# Altium schematic symbol library AUAV_X05.SchLib: 72 symbols
Pins are listed as number, name and electrical type; pins without a type are passive.

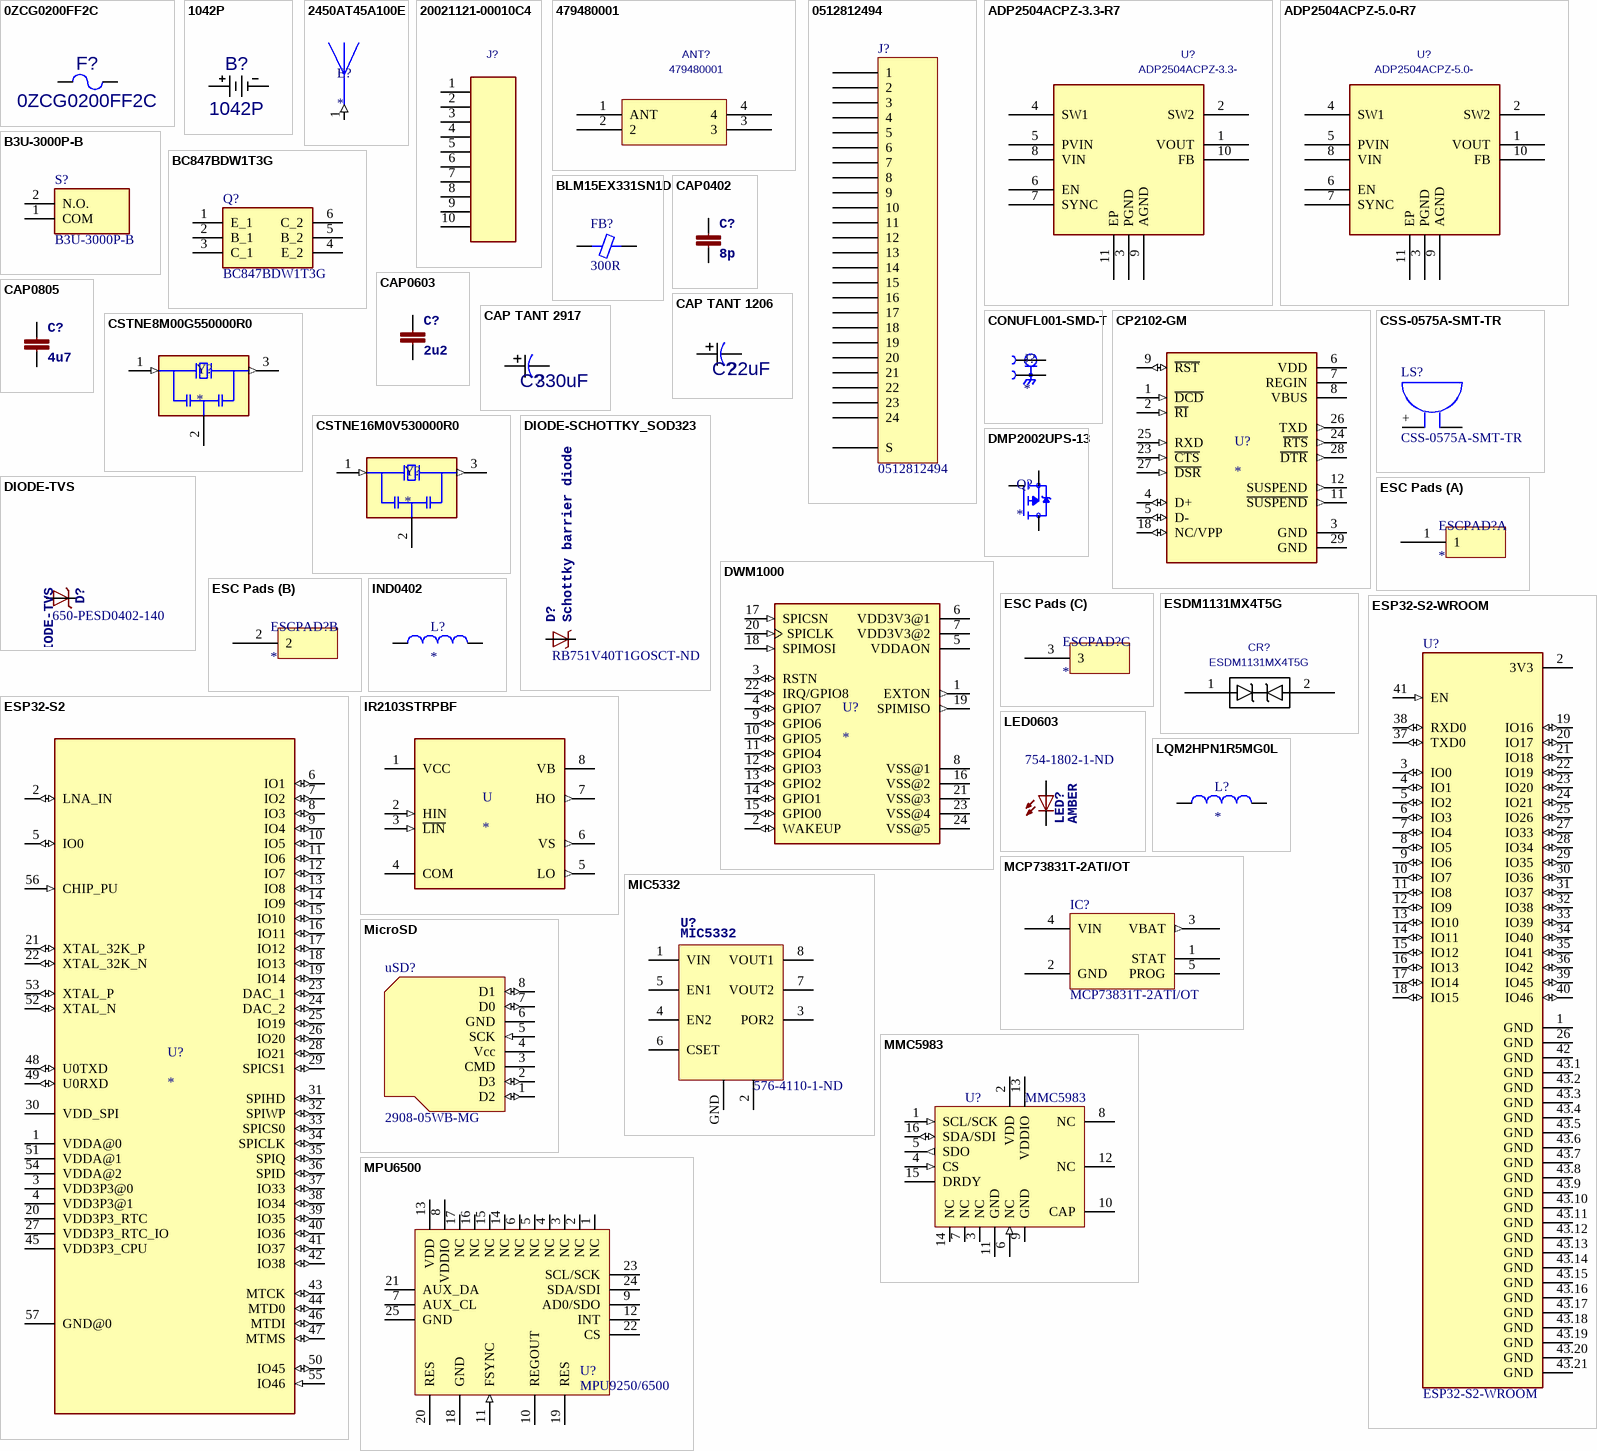
[diagram p0: symbols 0ZCG0200FF2C to MPU6500]

## 0ZCG0200FF2C
designator F?
Mfr_Name: Belfuse; Copyright: Copyright (C) 2022 Ultra Librarian. All rights reserved.; Manufacturer_Part_Number: 0ZCG0200FF2C; Digi-Key_Part_Number_1: 507-1777-1-ND; Digi-Key_Part_Number_2: 507-1777-2-ND; Digi-Key_Part_Number_3: 507-1777-6-ND; Value: 0ZCG0200FF2C
footprint 0ZCG_BEL
pins: 1, 2

## 1042P
designator B?
Mfr_Name: Keystone Electronics; C: Copyright (C) 2018 Accelerated Designs. All rights reserved; Copyright: Copyright (C) 2022 Ultra Librarian. All rights reserved.; Manufacturer_Part_Number: 1042P; Value: 1042P
footprint 1042P_KEY
pins: 1, 2

## 2450AT45A100E
designator E?
2.4GHz Chip RF Antenna 2.4GHz ~ 2.5GHz 2.2dBi Solder Surface Mount; MP: 2450AT45A100E; MF: Johanson Technology; Price: None; Value: *; Package: FBGA-1152 Johanson Technology; SnapEDA_Link: https://www.snapeda.com/parts/2450AT45A100E/Johanson%20Technology%20Inc./view-part/105265/?ref=snap; Availability: Unavailable
footprint ANT_2450AT45A100E
pins: 1 (in)

## 20021121-00010C4
designator J?  (value not drawn)
Mfr_Name: Amphenol ICC; Manufacturer_Part_Number: 20021121-00010C4LF; Value: 20021121-00010C4; Copyright: Copyright (C) 2022 Ultra Librarian. All rights reserved.; Digi-Key_Part_Number_1: 609-3695-1-ND; Digi-Key_Part_Number_2: 609-3695-2-ND; Digi-Key_Part_Number_3: 609-3695-2-NDL; Digi-Key_Part_Number_4: 609-3695-6-ND
footprint CONN_00010C4LF_A
pins: 1, 2, 3, 4, 5, 6, 7, 8, 9, 10
2 alternate drawings of the same symbol

## 479480001
designator ANT?
Mfr_Name: Molex Connector Corporation; C: Copyright (C) 2018 Accelerated Designs. All rights reserved; Value: 479480001; Copyright: Copyright (C) 2022 Ultra Librarian. All rights reserved.; Manufacturer_Part_Number: 479480001
footprint Molex_47948-0001_0
pins: 1 ANT, 2, 3, 4

## 0512812494
designator J?
CONN FFC FPC 24POS 0.50MM R/A; Manufacturer: Molex; Cable End Type: Straight, Tapered; Connector/Contact Type: Contacts, Top and Bottom; FFC, FCB Thickness: 0.30mm; Flat Flex Type: FFC, FPC; Material Flammability Rating: UL94 V-0; Number of Positions: 24; Pitch: 0.020" (0.50mm); Voltage Rating: 50V; Part Number: 0512812494; ComponentLink1Description: Datasheet; ComponentLink1URL: https://www.molex.com/pdm_docs/sd/512810794_sd.pdf; ComponentLink2Description: DigiKey Link; ComponentLink2URL: http://digikey.com/product-detail/en/molex/0512812494/WM6240CT-ND/2185198; Contact Finish: Gold; Contact Material: Phosphor Bronze; Features: Solder Retention; Height Above Board: 0.047" (1.20mm); Housing Material: Liquid Crystal Polymer (LCP), Glass Filled; LastUpdated: 26-05-2020 12:28:11; Lifecycle Status: Active; Minimum Order: 1; Mounting Type: Surface Mount, Right Angle; Operating Temperature: -20°C ~ 85°C; Packaging: TapeAndReel; Part Status: Active; Price: 0.71; Series: 51281; Supplier 1: DigiKey; Supplier Part Number 1: WM6240CT-ND; Termination: Solder
footprint MOLEX 512812494
pins: 1, 2, 3, 4, 5, 6, 7, 8, 9, 10, 11, 12, 13, 14, 15, 16, 17, 18, 19, 20, 21, 22, 23, 24, S

## ADP2504ACPZ-3.3-R7
designator U?, comment ADP2504ACPZ-3.3-
Mfr_Name: Analog Devices Inc; Manufacturer_Part_Number: ADP2504ACPZ-3.3-R7; Value: ADP2504ACPZ-3.3-; Copyright: Copyright (C) 2022 Ultra Librarian. All rights reserved.
footprint CP_10_9_ADI
pins: 1 VOUT, 2 SW2, 3 PGND, 4 SW1, 5 PVIN, 6 EN, 7 SYNC, 8 VIN, 9 AGND, 10 FB, 11 EP

## ADP2504ACPZ-5.0-R7
designator U?, comment ADP2504ACPZ-5.0-
Mfr_Name: Analog Devices Inc; Manufacturer_Part_Number: ADP2504ACPZ-5.0-R7; Value: ADP2504ACPZ-5.0-; Copyright: Copyright (C) 2022 Ultra Librarian. All rights reserved.
footprint CP_10_9_ADI
pins: 1 VOUT, 2 SW2, 3 PGND, 4 SW1, 5 PVIN, 6 EN, 7 SYNC, 8 VIN, 9 AGND, 10 FB, 11 EP

## B3U-3000P-B
designator S?
Switch; Manufacturer_Name: Omron Electronics; Datasheet Link: https://componentsearchengine.com/Datasheets/2/B3U-3000P-B.pdf; Height: 1.35mm; Manufacturer_Part_Number: B3U-3000P-B; Mouser Part Number: 653-B3U-3000P-B; Mouser Price/Stock: https://www.mouser.co.uk/ProductDetail/Omron-Electronics/B3U-3000P-B?qs=AO7BQMcsEu4JAdtnbsGArA%3D%3D; Arrow Part Number: B3U-3000P-B; Arrow Price/Stock: https://www.arrow.com/en/products/b3u-3000p-b/omron?region=nac
footprint B3U3000PB
pins: 1 COM, 2 N.O.

## BC847BDW1T3G
designator Q?
Transistor BJT NPN; Manufacturer_Name: ON Semiconductor; Datasheet Link: http://www.onsemi.com/pub/Collateral/BC846BDW1T1-D.PDF; Height: 1.1mm; Manufacturer_Part_Number: BC847BDW1T3G; Mouser Part Number: 863-BC847BDW1T3G; Mouser Price/Stock: https://www.mouser.co.uk/ProductDetail/ON-Semiconductor/BC847BDW1T3G?qs=vNc2DXHODiIkZomKfHKn%252Bg%3D%3D; Arrow Part Number: BC847BDW1T3G; Arrow Price/Stock: https://www.arrow.com/en/products/bc847bdw1t3g/on-semiconductor?region=nac
footprint SOT65P210X110-6N
pins: 1 E_1, 2 B_1, 3 C_1, 4 E_2, 5 B_2, 6 C_2

## BLM15EX331SN1D
designator FB?, comment 300R
0402 (1005) 330OHM 25% 1100MA; Part Number: BLM15EX331SN1D; Manufacturer: Murata Electronics; Current Rating (Max): 1.1A; Filter Type: Signal Line; Number of Lines: 1; ComponentLink1Description: Datasheet; ComponentLink1URL: https://www.murata.com/en-us/products/productdata/8796750970910/ENFA0023.pdf; ComponentLink2Description: DigiKey Link; ComponentLink2URL: http://digikey.com/product-detail/en/murata-electronics/BLM15EX331SN1D/490-18371-1-ND/9955444; Device Package: 0402 (1005 Metric); Height (Max): 0.022" (0.55mm); LastUpdated: 02-09-2020 01:18:11; Lifecycle Status: Active; Minimum Order: 1; Mounting Type: Surface Mount; Operating Temperature: -55°C ~ 125°C; Package / Case: 0402 (1005 Metric); Packaging: TapeAndReel; PartId: 364; Part Status: Active; Price: 0.06; Series: *; Size / Dimension: 0.039" L x 0.022" W (1.00mm x 0.55mm); Supplier 1: DigiKey; Supplier Part Number 1: 490-18371-1-ND
footprint FER 0402_1005
pins: 1, 2

## CAP0402
designator C?, comment 8p
CAP CER 8PF 50V C0G 0402; PARTNO: C1005C0G1H080C; 3DR_PARTNO: ECM0710; Supplier 1: Digi-Key; Value: 8p; Supplier Part Number 1: 445-4890-1-ND
footprint 0402-CAP
pins: P$1 1, P$2 2

## CAP0603
designator C?, comment 2u2
CAP CER 2.2UF 16V 10% X6S 0603; PARTNO: C1608X6S1C225K080AC; 3DR_PARTNO: ECM0619; Supplier 1: Digi-Key; Value: 2u2; Supplier Part Number 1: 445-7438-1-ND
footprint 0603-CAP
pins: P$1 1, P$2 2

## CAP0805
designator C?, comment 4u7
CAP CER 4.7UF 16V 10% X7R 0805; PARTNO: CL21B475KOFNNNE; 3DR_PARTNO: ECM0622; DATASHEET: http://www.digikey.com/product-detail/en/CL21B475KOFNNNE/1276-2873-2-ND/3888531; Supplier 1: Digi-Key; Value: 4u7; Supplier Part Number 1: 1276-2873-1-ND
footprint 0805-CAP
pins: P$1 1, P$2 2

## CAP TANT 1206
designator C?  value 22uF  (hidden comment: CAP TANT 1206)
Mfr_Name: Kemet; Manufacturer_Part_Number: T491A106K010AT; Copyright: Copyright (C) 2022 Ultra Librarian. All rights reserved.; Digi-Key_Part_Number_1: 399-3684-1-ND; Digi-Key_Part_Number_2: 399-3684-2-ND; Digi-Key_Part_Number_3: 399-3684-6-ND
footprint CAPMP3.4X1.6_1.8
pins: 1, 2
1 alternate drawing of the same symbol

## CAP TANT 2917
designator C?  value 330uF  (hidden comment: CAP TANT 2917)
Mfr_Name: Kemet; Manufacturer_Part_Number: T495D337K006ATE100; Copyright: Copyright (C) 2022 Ultra Librarian. All rights reserved.; Digi-Key_Part_Number_1: 399-3883-1-ND; Digi-Key_Part_Number_2: 399-3883-2-ND; Digi-Key_Part_Number_3: 399-3883-6-ND
footprint CAPMP7.6X4.3_3.1
pins: 1, 2
1 alternate drawing of the same symbol

## CONUFL001-SMD-T
designator J?
MHF1 Straight Surface Mount Jack, Tape and Reel; MP: CONUFL001-SMD-T; MF: Linx Technologies; SnapEDA_Link: https://www.snapeda.com/parts/CONUFL001-SMD-T/Linx+Technologies+Inc./view-part/?ref=snap; Availability: In Stock; Purchase-URL: https://pricing.snapeda.com/search/part/CONUFL001-SMD-T/?ref=eda; Value: *; Price: None; Package: None; Check_prices: https://www.snapeda.com/parts/CONUFL001-SMD-T/Linx+Technologies+Inc./view-part/?ref=eda
footprint LINX_CONUFL001-SMD-T
pins: 1, 2, 3 2

## CP2102-GM
designator U?
USB Bridge, USB to UART USB 2.0 UART Interface 28-QFN _5x5_; MF: Silicon Labs; MP: CP2102-GM; Package: QFN-28 Silicon Labs; Value: *; Price: None; Availability: Unavailable; SnapEDA_Link: https://www.snapeda.com/parts/CP2102-GM/Silicon%20Labs/view-part/135876/?ref=snap
footprint QFN50P500X500X100-29N
pins: 1 ~{DCD} (in), 2 ~{RI} (in), 3 GND (power), 4 D+ (io), 5 D- (io), 6 VDD (power), 7 REGIN (power), 8 VBUS (power), 9 ~{RST} (io), 11 ~{SUSPEND} (out), 12 SUSPEND (out), 18 NC/VPP (io), 23 ~{CTS} (in), 24 ~{RTS} (out), 25 RXD (in), 26 TXD (out), 27 ~{DSR} (in), 28 ~{DTR} (out), 29 GND (power)

## CSS-0575A-SMT-TR
designator LS?
AUDIO MAGNETIC XDCR 2-4V SMD; Manufacturer: CUI Devices; Current - Supply: 95mA; Driver Circuitry: Transducer, Externally Driven; Frequency: 4kHz; Input Type: Zero-Peak Signal; Operating Mode: Single Tone; Port Location: Top; Sound Pressure Level (SPL): 76dB @ 3V, 10cm; Voltage Range: 2 ~ 4V; Voltage - Rated: 3V; Part Number: CSS-0575A-SMT-TR; ComponentLink1Description: Datasheet; ComponentLink1URL: https://www.cuidevices.com/product/resource/digikeypdf/css-0575a-smt-tr.pdf; ComponentLink2Description: DigiKey Link; ComponentLink2URL: http://digikey.com/product-detail/en/cui-devices/CSS-0575A-SMT-TR/102-2201-1-ND/2364650; Height - Seated (Max): 0.094" (2.40mm); LastUpdated: 24-04-2020 00:39:31; Lifecycle Status: Active; Minimum Order: 1; Mounting Type: Surface Mount; Operating Temperature: -30°C ~ 70°C; Packaging: TapeAndReel; Part Status: Active; Price: 1.50; Series: CSS; Size / Dimension: 0.197" L x 0.197" W (5.00mm x 5.00mm); Supplier 1: DigiKey; Supplier Part Number 1: 102-2201-1-ND; Technology: Magnetic; Termination: Solder Pads
footprint CUI CSS-0575A-SMT-TR
pins: +, -

## CSTNE8M00G550000R0
designator Y?
8MHz Ceramic Resonator Built in Capacitor 33pF Â±0.2% 40 Ohms -40Â°C ~ 85Â°C Surface Mount; MP: CSTNE8M00G550000R0; MF: Murata Electronics; Value: *; SnapEDA_Link: https://www.snapeda.com/parts/CSTNE8M00G550000R0/Murata%20Electronics%20North%20America/view-part/2842151/?ref=snap; Check_prices: https://www.snapeda.com/parts/CSTNE8M00G550000R0/Murata%20Electronics%20North%20America/view-part/2842151/?ref=eda; Purchase-URL: https://pricing.snapeda.com/search/part/CSTNE8M00G550000R0/?ref=eda; Availability: Good; Price: None; Package: SMD-3 Murata
footprint OSC_CSTNE8M00G550000R0
pins: 1 IN (in), 2 GND (power), 3 OUT (out)

## CSTNE16M0V530000R0
designator Y?
16MHz Ceramic Resonator Built in Capacitor 15pF Â±0.3% 40 Ohms -40Â°C ~ 85Â°C Surface Mount; MF: Murata Electronics; MP: CSTNE16M0V530000R0; Check_prices: https://www.snapeda.com/parts/CSTNE16M0V530000R0/Murata%20Electronics%20North%20America/view-part/2773601/?ref=eda; Purchase-URL: https://pricing.snapeda.com/search/part/CSTNE16M0V530000R0/?ref=eda; SnapEDA_Link: https://www.snapeda.com/parts/CSTNE16M0V530000R0/Murata%20Electronics%20North%20America/view-part/2773601/?ref=snap; Price: None; Value: *; Package: SMD-3 Murata; Availability: Warning
footprint OSC_CSTNE16M0V530000R0
pins: 1 IN (in), 2 GND (power), 3 OUT (out)

## DIODE-SCHOTTKY_SOD323
designator D?, comment Schottky barrier diode  Supplier Part Number 1: RB751V40T1GOSCT-ND
DIODE SCHOTTKY 30V 0.03A SOD323; 3DR_PARTNO: ECM0839; PARTNO: RB751V40T1G; Supplier 1: Digi-Key; Value: 30V
footprint SOD323
pins: A, C

## DIODE-TVS
designator D?  Supplier Part Number 1: 650-PESD0402-140
TVS DIODE 14VWM 40VC 0402; 3DR_PARTNO: ECM0837; PARTNO: PESD0402-140; Value: 40v; Supplier 1: Mouser
footprint 0402-TVS
pins: A, C

## DMP2002UPS-13
designator Q?
P-Channel 20V 60A (Tc) 2.3W (Ta) Surface Mount PowerDI5060-8 (Type K); MF: Diodes Inc.; MP: DMP2002UPS-13; Package: PowerTDFN-8 Diodes Incorporated; SnapEDA_Link: https://www.snapeda.com/parts/DMP2002UPS-13/Diodes%20Inc./view-part/761846/?ref=snap; Check_prices: https://www.snapeda.com/parts/DMP2002UPS-13/Diodes%20Inc./view-part/761846/?ref=eda; Value: *; Digi-Key_Part_Number: DMP2002UPS-13DICT-ND
footprint TRANS_DMP2002UPS-13
pins: 1 S, 2 S, 3 S, 4 G, 5_8 D

## DWM1000
designator U?
802.15.4 IR-UWB Transceiver Module 3.5GHz ~ 6.5GHz Integrated, Chip Surface Mount; MF: Decawave Limited; MP: DWM1000; Package: Module Decawave; Availability: Unavailable; Value: *; SnapEDA_Link: https://www.snapeda.com/parts/DWM1000/Decawave%20Limited/view-part/327593/?ref=snap; Price: None
footprint XCVR_DWM1000
pins: 1 EXTON (out), 2 WAKEUP (io), 3 RSTN (io), 4 GPIO7 (io), 5 VDDAON (power), 6 VDD3V3@1 (power), 7 VDD3V3@2 (power), 8 VSS@1 (power), 9 GPIO6 (io), 10 GPIO5 (io), 11 GPIO4 (io), 12 GPIO3 (io), 13 GPIO2 (io), 14 GPIO1 (io), 15 GPIO0 (io), 16 VSS@2 (power), 17 SPICSN (in), 18 SPIMOSI (in), 19 SPIMISO (out), 20 SPICLK (in), 21 VSS@3 (power), 22 IRQ/GPIO8 (io), 23 VSS@4 (power), 24 VSS@5 (power)

## ESC Pads
designator ESCPAD?
footprint ESCPADS
part A pins: 1
part B pins: 2
part C pins: 3

## ESDM1131MX4T5G
designator CR?
Mfr_Name: onsemi; C: Copyright (C) 2018 Accelerated Designs. All rights reserved; Value: ESDM1131MX4T5G; Copyright: Copyright (C) 2022 Ultra Librarian. All rights reserved.; Manufacturer_Part_Number: ESDM1131MX4T5G; Digi-Key_Part_Number_1: 488-ESDM1131MX4T5GTR-ND; Digi-Key_Part_Number_2: 488-ESDM1131MX4T5GCT-ND; Digi-Key_Part_Number_3: 488-ESDM1131MX4T5GDKR-ND
footprint ESDM1131_OSI
pins: 1, 2

## ESP32-S2
designator U?
SMD WI-FI IC, ESP32-S2, SINGAL-C; MF: Espressif Systems; Value: *; Package: None; Price: None; MP: ESP32-S2; Availability: Unavailable; SnapEDA_Link: https://www.snapeda.com/parts/ESP32-S2/Espressif%20Systems/view-part/4571535/?ref=snap
footprint QFN40P700X700X90-57T400N
pins: 1 VDDA@0 (power), 2 LNA_IN (io), 3 VDD3P3@0 (power), 4 VDD3P3@1 (power), 5 IO0 (io), 6 IO1 (io), 7 IO2 (io), 8 IO3 (io), 9 IO4 (io), 10 IO5 (io), 11 IO6 (io), 12 IO7 (io), 13 IO8 (io), 14 IO9 (io), 15 IO10 (io), 16 IO11 (io), 17 IO12 (io), 18 IO13 (io), 19 IO14 (io), 20 VDD3P3_RTC (power), 21 XTAL_32K_P (io), 22 XTAL_32K_N (io), 23 DAC_1 (io), 24 DAC_2 (io), 25 IO19 (io), 26 IO20 (io), 27 VDD3P3_RTC_IO (power), 28 IO21 (io), 29 SPICS1 (io), 30 VDD_SPI (power), 31 SPIHD (io), 32 SPIWP (io), 33 SPICS0 (io), 34 SPICLK (io), 35 SPIQ (io), 36 SPID (io), 37 IO33 (io), 38 IO34 (io), 39 IO35 (io), 40 IO36 (io), 41 IO37 (io), 42 IO38 (io), 43 MTCK (io), 44 MTD0 (io), 45 VDD3P3_CPU (power), 46 MTDI (io), 47 MTMS (io), 48 U0TXD (io), 49 U0RXD (io), 50 IO45 (io), 51 VDDA@1 (power), 52 XTAL_N (io), 53 XTAL_P (io), 54 VDDA@2 (power), 55 IO46 (in), 56 CHIP_PU (in), 57 GND@0 (power)

## ESP32-S2-WROOM
designator U?
WiFi 802.11b/g/n Transceiver Module 2.4GHz Antenna Not Included, I-PEX Surface Mount; MF: Espressif Systems; Price: None; Value: *; Availability: In Stock; Check_prices: https://www.snapeda.com/parts/ESP32-S2-WROOM/Espressif+Systems/view-part/?ref=eda; Purchase-URL: https://pricing.snapeda.com/search/part/ESP32-S2-WROOM/?ref=eda; SnapEDA_Link: https://www.snapeda.com/parts/ESP32-S2-WROOM/Espressif+Systems/view-part/?ref=snap; MP: ESP32-S2-WROOM; Package: VFQFN-56 Espressif Systems
footprint XCVR_ESP32-S2-WROOM
pins: 1 GND (power), 2 3V3 (power), 3 IO0 (io), 4 IO1 (io), 5 IO2 (io), 6 IO3 (io), 7 IO4 (io), 8 IO5 (io), 9 IO6 (io), 10 IO7 (io), 11 IO8 (io), 12 IO9 (io), 13 IO10 (io), 14 IO11 (io), 15 IO12 (io), 16 IO13 (io), 17 IO14 (io), 18 IO15 (io), 19 IO16 (io), 20 IO17 (io), 21 IO18 (io), 22 IO19 (io), 23 IO20 (io), 24 IO21 (io), 25 IO26 (io), 26 GND (power), 27 IO33 (io), 28 IO34 (io), 29 IO35 (io), 30 IO36 (io), 31 IO37 (io), 32 IO38 (io), 33 IO39 (io), 34 IO40 (io), 35 IO41 (io), 36 IO42 (io), 37 TXD0 (io), 38 RXD0 (io), 39 IO45 (io), 40 IO46 (io), 41 EN (in), 42 GND (power), 43.1 GND (power), 43.2 GND (power), 43.3 GND (power), 43.4 GND (power), 43.5 GND (power), 43.6 GND (power), 43.7 GND (power), 43.8 GND (power), 43.9 GND (power), 43.10 GND (power), 43.11 GND (power), 43.12 GND (power), 43.13 GND (power), 43.14 GND (power), 43.15 GND (power), 43.16 GND (power), 43.17 GND (power), 43.18 GND (power), 43.19 GND (power), 43.20 GND (power), 43.21 GND (power)

## IND0402
designator L?
39nH Unshielded Multilayer Inductor 200mA 1.3Ohm Max 0402 (1005 Metric); MP: AIMC-0402-39NJ-T; MF: Abracon LLC; Package: 0402-2 Abracon; Availability: In Stock; Value: *; SnapEDA_Link: https://www.snapeda.com/parts/AIMC-0402-39NJ-T/Abracon%20LLC/view-part/1612276/?ref=snap; Price: None; Purchase-URL: https://pricing.snapeda.com/search/part/AIMC-0402-39NJ-T/?ref=eda; Check_prices: https://www.snapeda.com/parts/AIMC-0402-39NJ-T/Abracon%20LLC/view-part/1612276/?ref=eda
footprint INDC1005X65N
pins: 1, 2

## IR2103STRPBF
designator U
Floating channel designed for bootstrap operation | Fully operational to +600 V | Tolerant to negative transient voltage | dV/dt immune | Gate drive supply range from 10 to 20 V | Undervoltage lockout | 3.3 V, 5 V, and 15 V logic input compatible | Cross-conduction prevention logic | Matched propagation delay for both channels | Internal set deadtime | High side output in phase with HIN input | Low side output out of phase with LIN input; MP: IR2103STRPBF; MF: Infineon; Availability: Unavailable; Value: *; Package: SOIC-8 International Rectifier; Price: None; SnapEDA_Link: https://www.snapeda.com/parts/IR2103STRPBF/Infineon%20Technologies/view-part/56821/?ref=snap
footprint SOIC127P600X175-8N
pins: 1 VCC (power), 2 HIN (in), 3 ~{LIN} (in), 4 COM (power), 5 LO (out), 6 VS (out), 7 HO (out), 8 VB (power)

## LED0603
designator LED?, comment AMBER  Supplier Part Number 1: 754-1802-1-ND
LED 1.6X0.8 DOME ORN CLEAR SMD; PARTNO: APTD1608SECK; 3DR_PARTNO: ECM0515; Supplier 1: Digi-Key; Value: AMBER
footprint 0603-LED
pins: A, C

## LQM2HPN1R5MG0L
designator L?
INDUCTOR, 1.5UH, 20%, 1.5A, 50MHZ, 1008; MP: LQM2HPN1R5MG0L; Package: None; Price: None; Value: *; Availability: Unavailable
footprint INDC2520X100N
pins: 1, 2

## MCP73831T-2ATI/OT
designator IC?
IC CONTROLLR LI-ION 4.2V SOT23-5; Manufacturer: Microchip Technology; Battery Chemistry: Lithium Ion/Polymer; Charge Current - Max: 500mA; Current - Charging: Constant - Programmable; Fault Protection: Over Voltage; Number of Cells: 1; Programmable Features: Current; Voltage - Supply (Max): 6V; Part Number: MCP73831T-2ATI/OT; Battery Pack Voltage: 4.2V; ComponentLink1Description: Datasheet; ComponentLink1URL: http://ww1.microchip.com/downloads/en/DeviceDoc/20001984g.pdf; ComponentLink2Description: DigiKey Link; ComponentLink2URL: //digikey.com/product-detail/en/microchip-technology/MCP73831T-2ATI-OT/MCP73831T-2ATI-OTTR-ND/964303; Device Package: SC-74A, SOT-753; LastUpdated: 03-12-2019 23:33:03; Lifecycle Status: 0; Minimum Order: 1; Mounting Type: Surface Mount; Operating Temperature: -40°C ~ 85°C (TA); Package / Case: SC-74A, SOT-753; Packaging: TapeAndReel; PartId: 1; Part Status: Active; Price: 0.42; Series: -; Supplier 1: DigiKey; Supplier Part Number 1: MCP73831T-2ATI/OTTR-ND; Supplier Device Package: SOT-23-5
footprint MICROCHIP SOT-23-5 OT
pins: 1 STAT, 2 GND, 3 VBAT (out), 4 VIN, 5 PROG

## MIC5332
designator U?  Supplier Part Number 1: 576-4110-1-ND
IC REG LDO 3.3V 0.3A 8TMLF; 3DR_PARTNO: ECM0832; PARTNO: MIC5332-SSYMT TR; Supplier 1: Digi-Key; Value: 3.3V
footprint MLF-8-EPAD
pins: 1 VIN, 2 GND (power), 3 POR2, 4 EN2, 5 EN1, 6 CSET, 7 VOUT2, 8 VOUT1, GND (power)

## MicroSD
designator uSD?, comment 2908-05WB-MG
footprint MICROSD
pins: 1 D2 (io), 2 D3 (io), 3 CMD, 4 Vcc (power), 5 SCK (in), 6 GND (power), 7 D0 (io), 8 D1 (io)

## MMC5983
designator U?
footprint MMC5983 (HMC5983)
pins: 1 SCL/SCK (in), 2 VDD (power), 3 NC, 4 CS (in), 5 SDO (out), 6 NC (in), 7 NC, 8 NC, 9 GND (power), 10 CAP, 11 GND (power), 12 NC, 13 VDDIO (power), 14 NC, 15 DRDY, 16 SDA/SDI (io)

## MPU6500
designator U?, comment MPU9250/6500
footprint QFN24_3X3X1_IVS
pins: 1 NC, 2 NC, 3 NC, 4 NC, 5 NC, 6 NC, 7 AUX_CL, 8 VDDIO (power), 9 AD0/SDO, 10 REGOUT, 11 FSYNC (in), 12 INT, 13 VDD (power), 14 NC, 15 NC, 16 NC, 17 NC, 18 GND (power), 19 RES, 20 RES, 21 AUX_DA, 22 CS, 23 SCL/SCK, 24 SDA/SDI, 25 GND

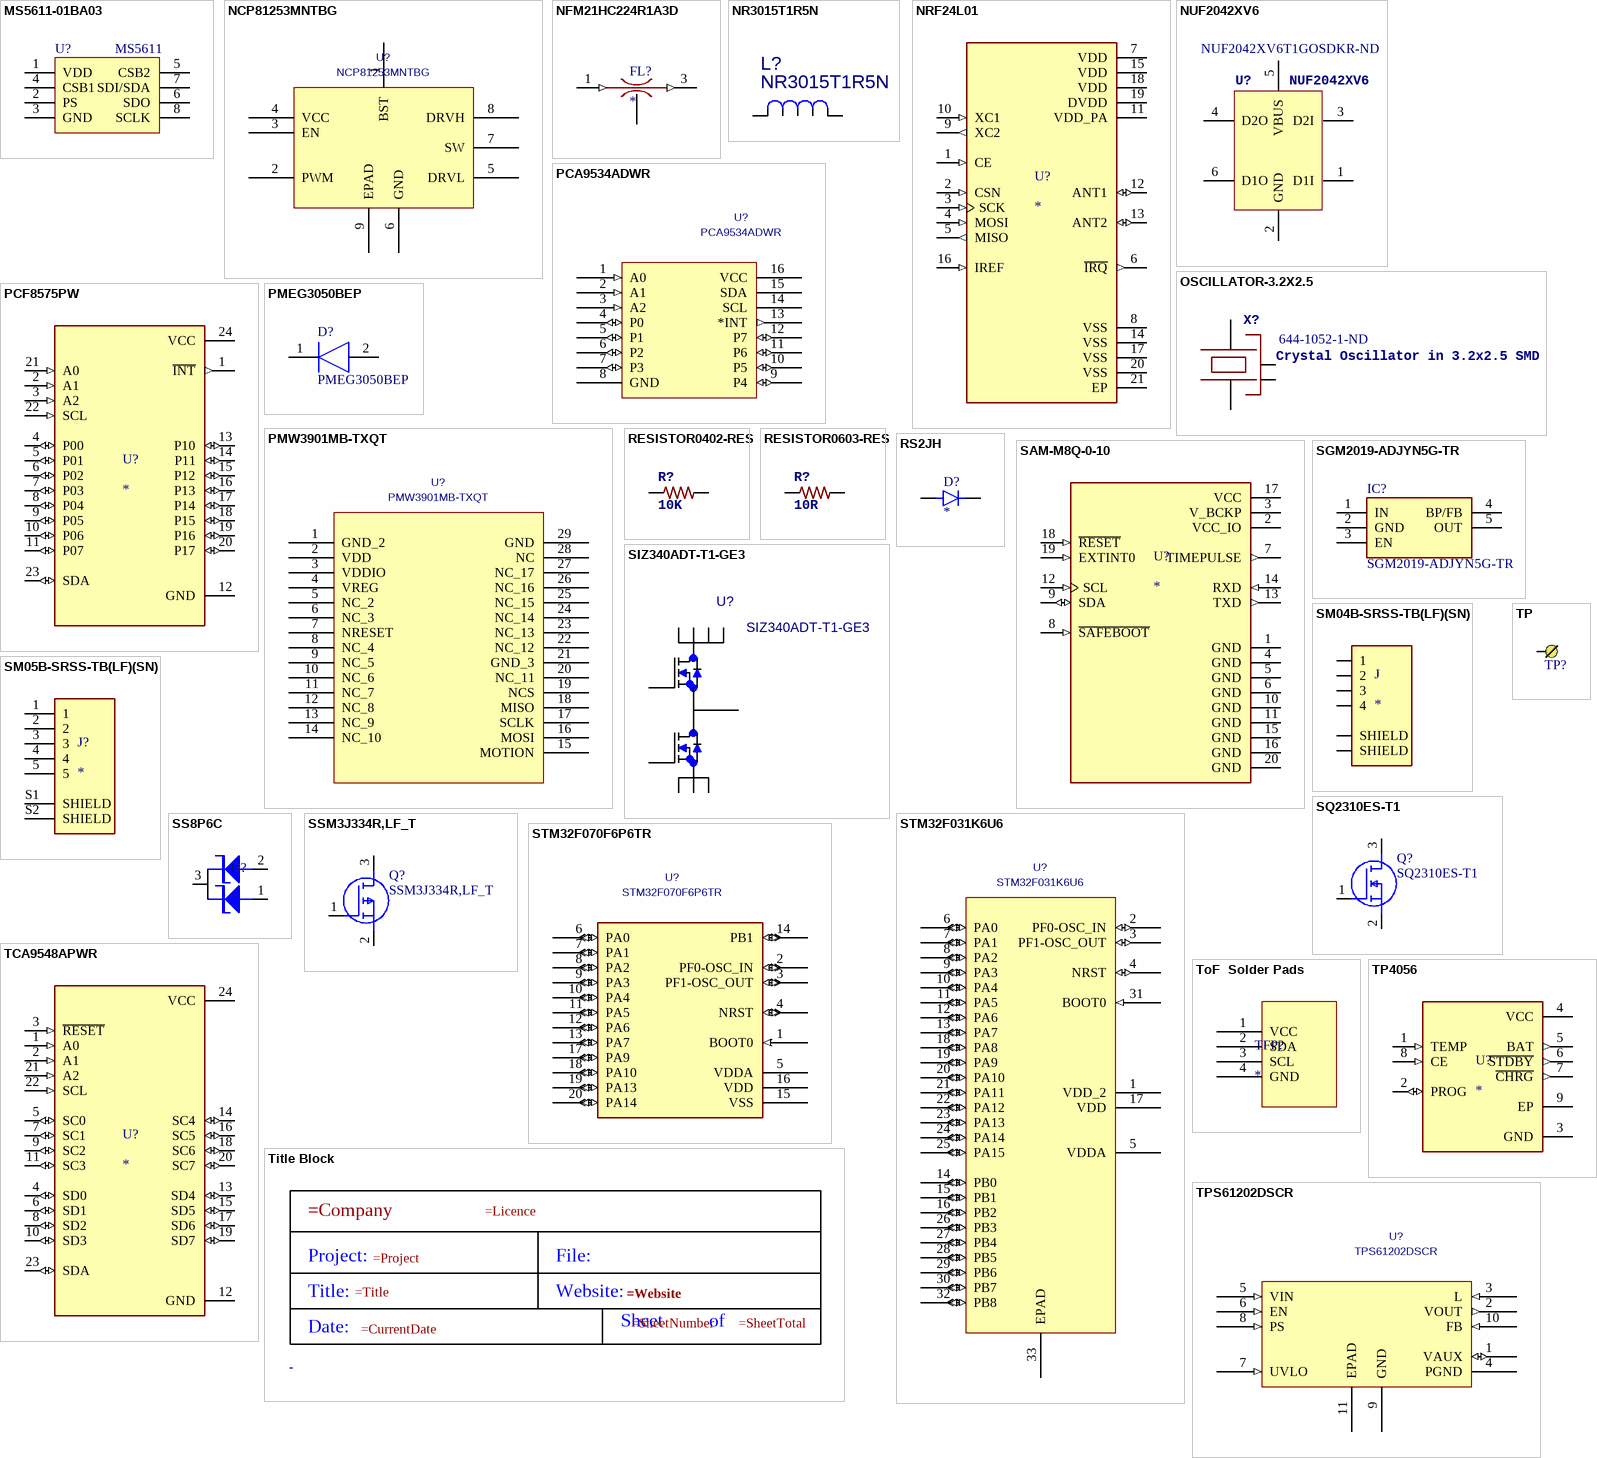
[diagram p1: symbols MS5611-01BA03 to TPS61202DSCR]

## MS5611-01BA03
designator U?, comment MS5611
footprint MS5611-01BA
pins: 1 VDD (power), 2 PS, 3 GND (power), 4 CSB1, 5 CSB2, 6 SDO, 7 SDI/SDA, 8 SCLK

## NCP81253MNTBG
designator U?
Mfr_Name: Renesas Electronics; Manufacturer_Part_Number: ISL6208BCRZ-TCT-ND; Value: ISL6208BCRZ-TCT-; C: Copyright (C) 2016 Accelerated Designs. All rights reserved; Copyright: Copyright (C) 2022 Ultra Librarian. All rights reserved.; Digi-Key_Part_Number_1: ISL6208BCRZ-TCT-ND
footprint DFN8_2X2_ONS-L
pins: 1 BST, 2 PWM, 3 EN, 4 VCC (power), 5 DRVL, 6 GND (power), 7 SW, 8 DRVH, 9 EPAD

## NFM21HC224R1A3D
designator FL?
SMD Capacitor with Capacitance: 0.22uF Tol. 20%. Rated Voltage: 10Vdc; MP: NFM21HC224R1A3D; MF: Murata; Digi-Key_Part_Number: 490-14852-1-ND; Package: NONSTANDARD; Value: *; SnapEDA_Link: https://www.snapeda.com/parts/NFM21HC224R1A3D/Murata/view-part/4381694/?ref=snap
footprint FIL_NFM21HC224R1A3D
pins: 1 IN (in), 2 GND (power), 2_1 GND (power), 2_2 GND (power), 2_3 GND (power), 2_4 GND (power), 3 OUT (out)

## NR3015T1R5N
designator L?
Mfr_Name: Taiyo Yuden; C: Copyright (C) 2015 Accelerated Designs. All rights reserved; Copyright: Copyright (C) 2022 Ultra Librarian. All rights reserved.; Manufacturer_Part_Number: NR3015T1R5N; Value: NR3015T1R5N
footprint IND_TAIYO_NR3015
pins: 1, 2
1 alternate drawing of the same symbol

## NRF24L01
designator U?
IC RF TxRx Only General ISM > 1GHZ 2.4GHz 20-VFQFN Exposed Pad; MP: NRF24L01+; MF: Nordic Semiconductor; Availability: Unavailable; Package: QFN-20 Nordic Semiconductor; SnapEDA_Link: https://www.snapeda.com/parts/NRF24L01%2B/Nordic%20Semiconductor%20ASA/view-part/1023904/?ref=snap; Value: *; Price: None
footprint QFN50P400X400X95-21N
pins: 1 CE (in), 2 CSN (in), 3 SCK (in), 4 MOSI (in), 5 MISO (out), 6 ~{IRQ} (out), 7 VDD (power), 8 VSS (power), 9 XC2 (out), 10 XC1 (in), 11 VDD_PA (power), 12 ANT1 (io), 13 ANT2 (io), 14 VSS (power), 15 VDD (power), 16 IREF (in), 17 VSS (power), 18 VDD (power), 19 DVDD (power), 20 VSS (power), 21 EP (power)

## NUF2042XV6
designator U?  Supplier Part Number 1: NUF2042XV6T1GOSDKR-ND
IC FILTER USB ESD PROTECT SOT363; PARTNO: NUF2042XV6T1G; 3DR_PARTNO: ECM0836; Supplier 1: Digi-Key
footprint SOT563-6
pins: 1 D1I, 2 GND, 3 D2I, 4 D2O, 5 VBUS, 6 D1O

## OSCILLATOR-3.2X2.5
designator X?, comment Crystal Oscillator in 3.2x2.5 SMD  Supplier Part Number 1: 644-1052-1-ND
CRYSTAL 24MHZ 8PF SMD; 3DR_PARTNO: ECM0708; PARTNO: NX3225SA-24.000MHZ-STD-CSR-1; Supplier 1: Digi-Key; Value: 24MHz
footprint OSCILLATOR-3.2X2.5
pins: 1, 2 NC_2 (oe), 3, 4 NC_4 (oe)

## PCA9534ADWR
designator U?
Mfr_Name: Texas Instruments; Value: PCA9534ADWR; Copyright: Copyright (C) 2022 Ultra Librarian. All rights reserved.; Manufacturer_Part_Number: PCA9534ADWR; Digi-Key_Part_Number_1: 296-21759-1-ND; Digi-Key_Part_Number_2: 296-21759-2-ND; Digi-Key_Part_Number_3: 296-21759-6-ND; Digi-Key_Part_Number_4: 2156-PCA9534ADWR-ND
footprint DW16
pins: 1 A0 (in), 2 A1 (in), 3 A2 (in), 4 P0 (io), 5 P1 (io), 6 P2 (io), 7 P3 (io), 8 GND (power), 9 P4 (io), 10 P5 (io), 11 P6 (io), 12 P7 (io), 13 *INT (out), 14 SCL, 15 SDA, 16 VCC (power)

## PCF8575PW
designator U?
Remote 16-Bit I2C and SMBus I/O Expander with Interrupt Output 24-TSSOP -40 to 85; MP: PCF8575PW; MF: Texas Instruments; Package: TSSOP-24 Texas Instruments; Availability: In Stock; Value: *; Purchase-URL: https://pricing.snapeda.com/search/part/PCF8575PW/?ref=eda; Check_prices: https://www.snapeda.com/parts/PCF8575PW/Texas+Instruments/view-part/?ref=eda; Price: None; SnapEDA_Link: https://www.snapeda.com/parts/PCF8575PW/Texas+Instruments/view-part/?ref=snap
footprint SOP65P640X120-24N
pins: 1 ~{INT} (out), 2 A1 (in), 3 A2 (in), 4 P00 (io), 5 P01 (io), 6 P02 (io), 7 P03 (io), 8 P04 (io), 9 P05 (io), 10 P06 (io), 11 P07 (io), 12 GND (power), 13 P10 (io), 14 P11 (io), 15 P12 (io), 16 P13 (io), 17 P14 (io), 18 P15 (io), 19 P16 (io), 20 P17 (io), 21 A0 (in), 22 SCL (in), 23 SDA (io), 24 VCC (power)

## PMEG3050BEP
designator D?
Diode; Manufacturer_Name: Nexperia; Datasheet Link: https://assets.nexperia.com/documents/data-sheet/PMEG3050BEP.pdf; Height: 1mm; Manufacturer_Part_Number: PMEG3050BEP; Mouser Part Number: N/A; Mouser Price/Stock: https://www.mouser.com/Search/Refine.aspx?Keyword=N%2FA
footprint PMEG3050EP115
pins: 1 K, 2 A

## PMW3901MB-TXQT
designator U?
Mfr_Name: PixArt; C: Copyright (C) 2018 Accelerated Designs. All rights reserved; Value: PMW3901MB-TXQT; Copyright: Copyright (C) 2022 Ultra Librarian. All rights reserved.; Manufacturer_Part_Number: PMW3901MB-TXQT
footprint QFN_01MB-TXQT_PI
pins: 1 GND_2 (power), 2 VDD (power), 3 VDDIO (power), 4 VREG, 5 NC_2, 6 NC_3, 7 NRESET, 8 NC_4, 9 NC_5, 10 NC_6, 11 NC_7, 12 NC_8, 13 NC_9, 14 NC_10, 15 MOTION, 16 MOSI, 17 SCLK, 18 MISO, 19 NCS, 20 NC_11, 21 GND_3 (power), 22 NC_12, 23 NC_13, 24 NC_14, 25 NC_15, 26 NC_16, 27 NC_17, 28 NC, 29 GND (power)

## RESISTOR0402-RES
designator R?, comment 10K
RES 10K OHM 1/16W 1% 0402 SMD; PARTNO: RC0402FR-0710KL; 3DR_PARTNO: ECM0800; Supplier 1: Digi-Key; Value: 10K; Supplier Part Number 1: 311-10.0KLRCT-ND
footprint 0402-RES
pins: P$1 1, P$2 2

## RESISTOR0603-RES
designator R?, comment 10R
RES 10 OHM 1/10W 5% 0603; PARTNO: RC1608J100CS; 3DR_PARTNO: ECM0811; Supplier 1: Digi-Key; Value: 10R; Supplier Part Number 1: 1276-5014-1-ND
footprint 0603-RES
pins: 1, 2

## RS2JH
designator D?
250ns, 2A, 600V, Fast Recovery Rectifier; MF: Taiwan Semiconductor; MP: RS2JH; Value: *; Check_prices: https://www.snapeda.com/parts/RS2JH/Taiwan+Semiconductor/view-part/?ref=eda; SnapEDA_Link: https://www.snapeda.com/parts/RS2JH/Taiwan+Semiconductor/view-part/?ref=snap; Package: SMD-2-2 Avago
footprint DIOM4336X265N
pins: A, C K

## SAM-M8Q-0-10
designator U?
Concurrent GNSS LGA antenna module, TCXO, SAW, LNA; MP: SAM-M8Q-0-10; MF: U-Blox America; SnapEDA_Link: https://www.snapeda.com/parts/SAM-M8Q-0-10/U-Blox%20America%20Inc./view-part/4176901/?ref=snap; Package: SMD-20 u-blox; Check_prices: https://www.snapeda.com/parts/SAM-M8Q-0-10/U-Blox%20America%20Inc./view-part/4176901/?ref=eda; Availability: Not in stock; Price: None; Value: *
footprint MODULE_SAM-M8Q-0-10
pins: 1 GND (power), 2 VCC_IO (power), 3 V_BCKP (power), 4 GND (power), 5 GND (power), 6 GND (power), 7 TIMEPULSE (out), 8 ~{SAFEBOOT} (in), 9 SDA (io), 10 GND (power), 11 GND (power), 12 SCL (in), 13 TXD (out), 14 RXD (in), 15 GND (power), 16 GND (power), 17 VCC (power), 18 ~{RESET} (in), 19 EXTINT0 (in), 20 GND (power)

## SGM2019-ADJYN5G-TR
designator IC?
Integrated Circuit; Manufacturer_Name: SGMICRO; Height: 1.25mm; Manufacturer_Part_Number: SGM2019-ADJYN5G-TR
footprint SOT95P280X125-5N
pins: 1 IN, 2 GND, 3 EN, 4 BP/FB, 5 OUT

## SIZ340ADT-T1-GE3
designator U?
Mfr_Name: Vishay; C: Copyright (C) 2018 Accelerated Designs. All rights reserved; Copyright: Copyright (C) 2022 Ultra Librarian. All rights reserved.; Manufacturer_Part_Number: SIZ340ADT-T1-GE3; Digi-Key_Part_Number_1: 742-SIZ340ADT-T1-GE3TR-ND; Digi-Key_Part_Number_2: 742-SIZ340ADT-T1-GE3CT-ND; Digi-Key_Part_Number_3: 742-SIZ340ADT-T1-GE3DKR-ND; Value: SIZ340ADT-T1-GE3
footprint MOSFET_DT-T1-GE3
pins: 1 G1 (io), 2 D1_2 (io), 3 D1_3 (io), 4 D1_4 (io), 5 S2_2 (io), 6 S2_3 (io), 7 S2, 8 G2 (io), 9 S1/D2 (io), 10 D1 (io)

## SM04B-SRSS-TB(LF)(SN)
designator J
Connector Header Surface Mount, Right Angle 4 position 0.039 _1.00mm_; MF: JST Sales; MP: SM04B-SRSS-TB_LF__SN_; Price: None; SnapEDA_Link: https://www.snapeda.com/parts/SM04B-SRSS-TB%28LF%29%28SN%29/JST%20Sales%20America%20Inc./view-part/557466/?ref=snap; Value: *; Availability: Unavailable; Package: None
footprint JST_SM04B-SRSS-TB(LF)(SN)
pins: 1, 2, 3, 4, S1 SHIELD, S2 SHIELD

## SM05B-SRSS-TB(LF)(SN)
designator J?
Connector Header Surface Mount, Right Angle 5 position 0.039 (1.00mm); MF: JST Sales; MP: SM05B-SRSS-TB(LF)(SN); Price: None; Value: *; Availability: In Stock; Check_prices: https://www.snapeda.com/parts/SM05B-SRSS-TB(LF)(SN)/JST+Sales+America+Inc./view-part/?ref=eda; SnapEDA_Link: https://www.snapeda.com/parts/SM05B-SRSS-TB(LF)(SN)/JST+Sales+America+Inc./view-part/?ref=snap; Package: None
footprint JST_SM05B-SRSS-TB(LF)(SN)
pins: 1, 2, 3, 4, 5, S1 SHIELD, S2 SHIELD

## SQ2310ES-T1
designator Q?
MOSFET (N-Channel); Manufacturer_Name: Vishay; Datasheet Link: https://www.vishay.com/doc?67036; Height: 1.12mm; Manufacturer_Part_Number: SQ2310ES-T1
footprint SOT95P237X112-3N
pins: 1 G, 2 S, 3 D

## SS8P6C
designator D?
footprint DIODE_TO-277A-L
pins: 1, 2, 3

## SSM3J334R,LF_T
designator Q?
MOSFET (P-Channel); Manufacturer_Name: Toshiba; Manufacturer_Part_Number: SSM3J334R,LF(T; Datasheet Link: http://toshiba.semicon-storage.com/info/docget.jsp?did=5579&prodName=SSM3J334R; Height: 0.88mm; Arrow Part Number: SSM3J334R,LF(T; Arrow Price/Stock: https://www.arrow.com/en/products/ssm3j334rlf-t/toshiba
footprint SOTFL95P240X88-3N
pins: 1 G, 2 S, 3 D

## STM32F031K6U6
designator U?
Mfr_Name: STMicroelectronics; C: Copyright (C) 2016 Accelerated Designs. All rights reserved; Value: STM32F031K6U6; Copyright: Copyright (C) 2022 Ultra Librarian. All rights reserved.; Manufacturer_Part_Number: STM32F031K6U6
footprint UFQFPN32-5X5MM
pins: 1 VDD_2 (power), 2 PF0-OSC_IN (io), 3 PF1-OSC_OUT (io), 4 NRST (io), 5 VDDA (power), 6 PA0 (io), 7 PA1 (io), 8 PA2 (io), 9 PA3 (io), 10 PA4 (io), 11 PA5 (io), 12 PA6 (io), 13 PA7 (io), 14 PB0 (io), 15 PB1 (io), 16 PB2 (io), 17 VDD (power), 18 PA8 (io), 19 PA9 (io), 20 PA10 (io), 21 PA11 (io), 22 PA12 (io), 23 PA13 (io), 24 PA14 (io), 25 PA15 (io), 26 PB3 (io), 27 PB4 (io), 28 PB5 (io), 29 PB6 (io), 30 PB7 (io), 31 BOOT0 (in), 32 PB8 (io), 33 EPAD

## STM32F070F6P6TR
designator U?
Mfr_Name: STMicroelectronics; C: Copyright (C) 2016 Accelerated Designs. All rights reserved; Value: STM32F070F6P6TR; Copyright: Copyright (C) 2022 Ultra Librarian. All rights reserved.; Manufacturer_Part_Number: STM32F070F6P6TR; Digi-Key_Part_Number_1: 497-17354-2-ND; Digi-Key_Part_Number_2: 497-17354-1-ND; Digi-Key_Part_Number_3: 497-17354-6-ND
footprint TSSOP20-L
pins: 1 BOOT0 (in), 2 PF0-OSC_IN (io), 3 PF1-OSC_OUT (io), 4 NRST (io), 5 VDDA (power), 6 PA0 (io), 7 PA1 (io), 8 PA2 (io), 9 PA3 (io), 10 PA4 (io), 11 PA5 (io), 12 PA6 (io), 13 PA7 (io), 14 PB1 (io), 15 VSS (power), 16 VDD (power), 17 PA9 (io), 18 PA10 (io), 19 PA13 (io), 20 PA14 (io)

## TCA9548APWR
designator U?
Low-Voltage 8-Channel I2C Switch With Reset; MP: TCA9548APWR; MF: Texas Instruments; Price: None; DigiKey-Purchase-URL: https://snapeda.com/shop?store=DigiKey&id=280817; Package: TSSOP-24 Texas Instruments; Mouser-Purchase-URL: https://snapeda.com/shop?store=Mouser&id=280817; Texas_Instruments-Purchase-URL: https://snapeda.com/shop?store=Texas+Instruments&id=280817; Value: *; Availability: Unavailable; Arrow_Electronics-Purchase-URL: https://snapeda.com/shop?store=Arrow+Electronics&id=280817; SnapEDA_Link: https://www.snapeda.com/parts/TCA9548APWR/Texas%20Instruments/view-part/280817/?ref=snap
footprint SOP65P640X120-24N
pins: 1 A0 (in), 2 A1 (in), 3 ~{RESET} (in), 4 SD0 (io), 5 SC0 (io), 6 SD1 (io), 7 SC1 (io), 8 SD2 (io), 9 SC2 (io), 10 SD3 (io), 11 SC3 (io), 12 GND (power), 13 SD4 (io), 14 SC4 (io), 15 SD5 (io), 16 SC5 (io), 17 SD6 (io), 18 SC6 (io), 19 SD7 (io), 20 SC7 (io), 21 A2 (in), 22 SCL (in), 23 SDA (io), 24 VCC (power)

## Title Block
designator *?  (value not drawn)
Size: -
text: Project:; File:; Title:; Website:; Sheet; of; Date:

## ToF  Solder Pads
designator TFP?
footprint ToF Pads
pins: 1 VCC, 2 SDA, 3 SCL, 4 GND

## TP
designator TP?
footprint SMT_PAD
pins: 1

## TP4056
designator U?
Complete single cell Li-Ion battery with a constant current / constant voltage linear charger; MP: TP4056; MF: NanJing Top Power ASIC Corp.; Price: None; Availability: No availability data; Value: *; Check_prices: https://www.snapeda.com/parts/TP4056%20/NanJing%20Top%20Power%20ASIC%20Corp./view-part/2888426/?ref=eda; SnapEDA_Link: https://www.snapeda.com/parts/TP4056%20/NanJing%20Top%20Power%20ASIC%20Corp./view-part/2888426/?ref=snap; Package: Package
footprint SOP127P600X175-9N
pins: 1 TEMP (in), 2 PROG (io), 3 GND (power), 4 VCC (power), 5 BAT (out), 6 ~{STDBY} (out), 7 ~{CHRG} (out), 8 CE (in), 9 EP

## TPS61202DSCR
designator U?
Mfr_Name: Texas Instruments; Value: TPS61202DSCR; Copyright: Copyright (C) 2022 Ultra Librarian. All rights reserved.; Manufacturer_Part_Number: TPS61202DSCR; Digi-Key_Part_Number_1: 296-24865-1-ND; Digi-Key_Part_Number_2: 296-24865-2-ND; Digi-Key_Part_Number_3: 296-24865-6-ND; Digi-Key_Part_Number_4: 2156-TPS61202DSCR-ND
pins: 1 VAUX (io), 2 VOUT (out), 3 L (in), 4 PGND (power), 5 VIN (in), 6 EN (in), 7 UVLO (in), 8 PS (in), 9 GND (power), 10 FB (in), 11 EPAD

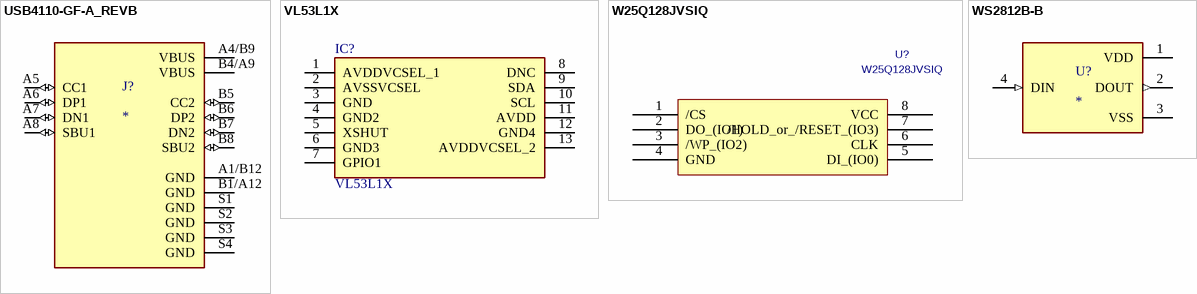
[diagram p2: symbols USB4110-GF-A_REVB to WS2812B-B]

## USB4110-GF-A_REVB
designator J?
USB-C (USB TYPE-C) USB 2.0 Receptacle Connector 24 (16+8 Dummy) Position Surface Mount, Right Angle; Through Hole; MF: GCT; MP: USB4110-GF-A; Value: *; Price: None; Package: None; SnapEDA_Link: https://www.snapeda.com/parts/USB4110-GF-A/Global%20Connector%20Technology/view-part/4001167/?ref=snap; Availability: Warning; Purchase-URL: https://pricing.snapeda.com/search/part/USB4110-GF-A/?ref=eda; Check_prices: https://www.snapeda.com/parts/USB4110-GF-A/Global%20Connector%20Technology/view-part/4001167/?ref=eda
footprint GCT_USB4110-GF-A_REVB
pins: A1/B12 GND (power), A4/B9 VBUS (power), A5 CC1 (io), A6 DP1 (io), A7 DN1 (io), A8 SBU1 (io), B1/A12 GND (power), B4/A9 VBUS (power), B5 CC2 (io), B6 DP2 (io), B7 DN2 (io), B8 SBU2 (io), S1 GND (power), S2 GND (power), S3 GND (power), S4 GND (power)

## VL53L1X
designator IC?
Integrated Circuit; Manufacturer_Name: STMicroelectronics; Datasheet Link: https://www.st.com/resource/en/datasheet/vl53l1x.pdf; Height: 1.6mm; Manufacturer_Part_Number: VL53L1X
footprint VL53L1X
pins: 1 AVDDVCSEL_1, 2 AVSSVCSEL, 3 GND, 4 GND2, 5 XSHUT, 6 GND3, 7 GPIO1, 8 DNC, 9 SDA, 10 SCL, 11 AVDD, 12 GND4, 13 AVDDVCSEL_2

## W25Q128JVSIQ
designator U?
Mfr_Name: Winbond; C: Copyright (C) 2021 Accelerated Designs. All rights reserved; Value: W25Q128JVSIQ; Copyright: Copyright (C) 2022 Ultra Librarian. All rights reserved.; Manufacturer_Part_Number: W25Q128JVSIQ; Digi-Key_Part_Number_1: W25Q128JVSIQ-ND
footprint SOIC_128JVSIQ_WI
pins: 1 /CS, 2 DO_(IO1), 3 /WP_(IO2), 4 GND (power), 5 DI_(IO0), 6 CLK, 7 /HOLD_or_/RESET_(IO3), 8 VCC (power)

## WS2812B-B
designator U?
Intelligent control LED integrated light source; MP: WS2812B-B; MF: Worldsemi; SnapEDA_Link: https://www.snapeda.com/parts/WS2812B-B/Worldsemi/view-part/5799638/?ref=snap; Package: Package; Check_prices: https://www.snapeda.com/parts/WS2812B-B/Worldsemi/view-part/5799638/?ref=eda; Availability: Unavailable; Price: None; Value: *
footprint LED_WS2812B-B
pins: 1 VDD (power), 2 DOUT (out), 3 VSS (power), 4 DIN (in)